# EAGLE library part 690367292476 (library WR-MM)
WR-MM Female SMT Connector with Latch & Polarization KIND PROPERTIES: Pitch 2.54 mm Gender:Female MATERIAL PROPERTIES: Insulator Material:PA6T Insulator Flammability Rating UL94 V-0 Insulator Color:Red Contact Material :Phosphor Bronze Contact Plating :Mat Tin over Nickel Contact Type: Stamped GENERAL PROPERTIES: Operating Temperature:-40 °C up to +105 °C Compliance Lead free / RoHS ELECTRICAL PROPERTIES: Working Voltage 100 V (AC) Withstanding Voltage:500 V (AC) Contact Resistance: 10 mΩ Insulation Resistance:1000 MΩ PACKAGING PROPERTIES: cULus Approval:E323964 Packaging :Tape and Reel <https://katalog.we-online.com/media/images/v2/o33161v209%20WR-MiMo_69036729xx76.jpg> Details see: Web 1: https://katalog.we-online.com/en/em/MM_1_27_SMT_FEMALE_CONNECTOR_WITH_LATCH_AND_POLARIZATION_69036729XX76_2 Web2: https://katalog.we-online.com/en/em/MM_1_27_SMT_FEMALE_CONNECTOR_WITH_LATCH_AND_POLARIZATION_69036729XX76 Updated by Yingchun,Shan 2019-10-28 2019 (C) Würth Elektronik
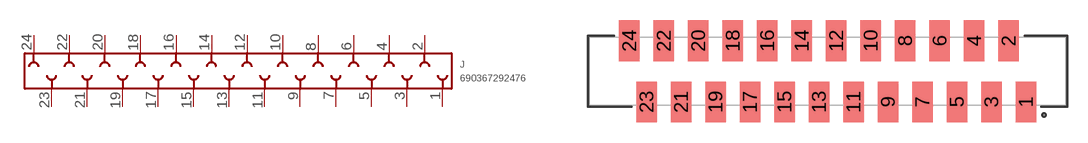
[diagram p23: symbol with the pads of 690367292476; footprint 690367292476]

Designator prefix J

## 690367292476 (DATASHEET-URL: https://www.we-online.com/catalog/datasheet/690367292476.pdf; GENDER: Female; IR: 1.5A; PACKAGING: Tape and Reel; PART-NUMBER: 690367292476; PINS: 24; PITCH: 2.54; TYPE: Straight; VALUE: 690367292476)  [690367292476]
1  1  pas
2  2  pas
3  3  pas
4  4  pas
5  5  pas
6  6  pas
7  7  pas
8  8  pas
9  9  pas
10  10  pas
11  11  pas
12  12  pas
13  13  pas
14  14  pas
15  15  pas
16  16  pas
17  17  pas
18  18  pas
19  19  pas
20  20  pas
21  21  pas
22  22  pas
23  23  pas
24  24  pas

## Footprint 690367292476 (pad centres in mm)
WR-MM Female SMT Connector with Latch & Polarization, 24 pins
smd 1.5 x 3: 1 14.605,-2.25; 2 13.335,2.25; 3 12.065,-2.25; 4 10.795,2.25; 5 9.525,-2.25; 6 8.255,2.25; 7 6.985,-2.25; 8 5.715,2.25; 9 4.445,-2.25; 10 3.175,2.25; 11 1.905,-2.25; 12 0.635,2.25; 13 -0.635,-2.25; 14 -1.905,2.25; 15 -3.175,-2.25; 16 -4.445,2.25; 17 -5.715,-2.25; 18 -6.985,2.25; 19 -8.255,-2.25; 20 -9.525,2.25; 21 -10.795,-2.25; 22 -12.065,2.25; 23 -13.335,-2.25; 24 -14.605,2.25